# EAGLE library part EP4CE6E22C8N (library ICs)
6K LE, 144pin EQFP, Cyclone IV FPGA
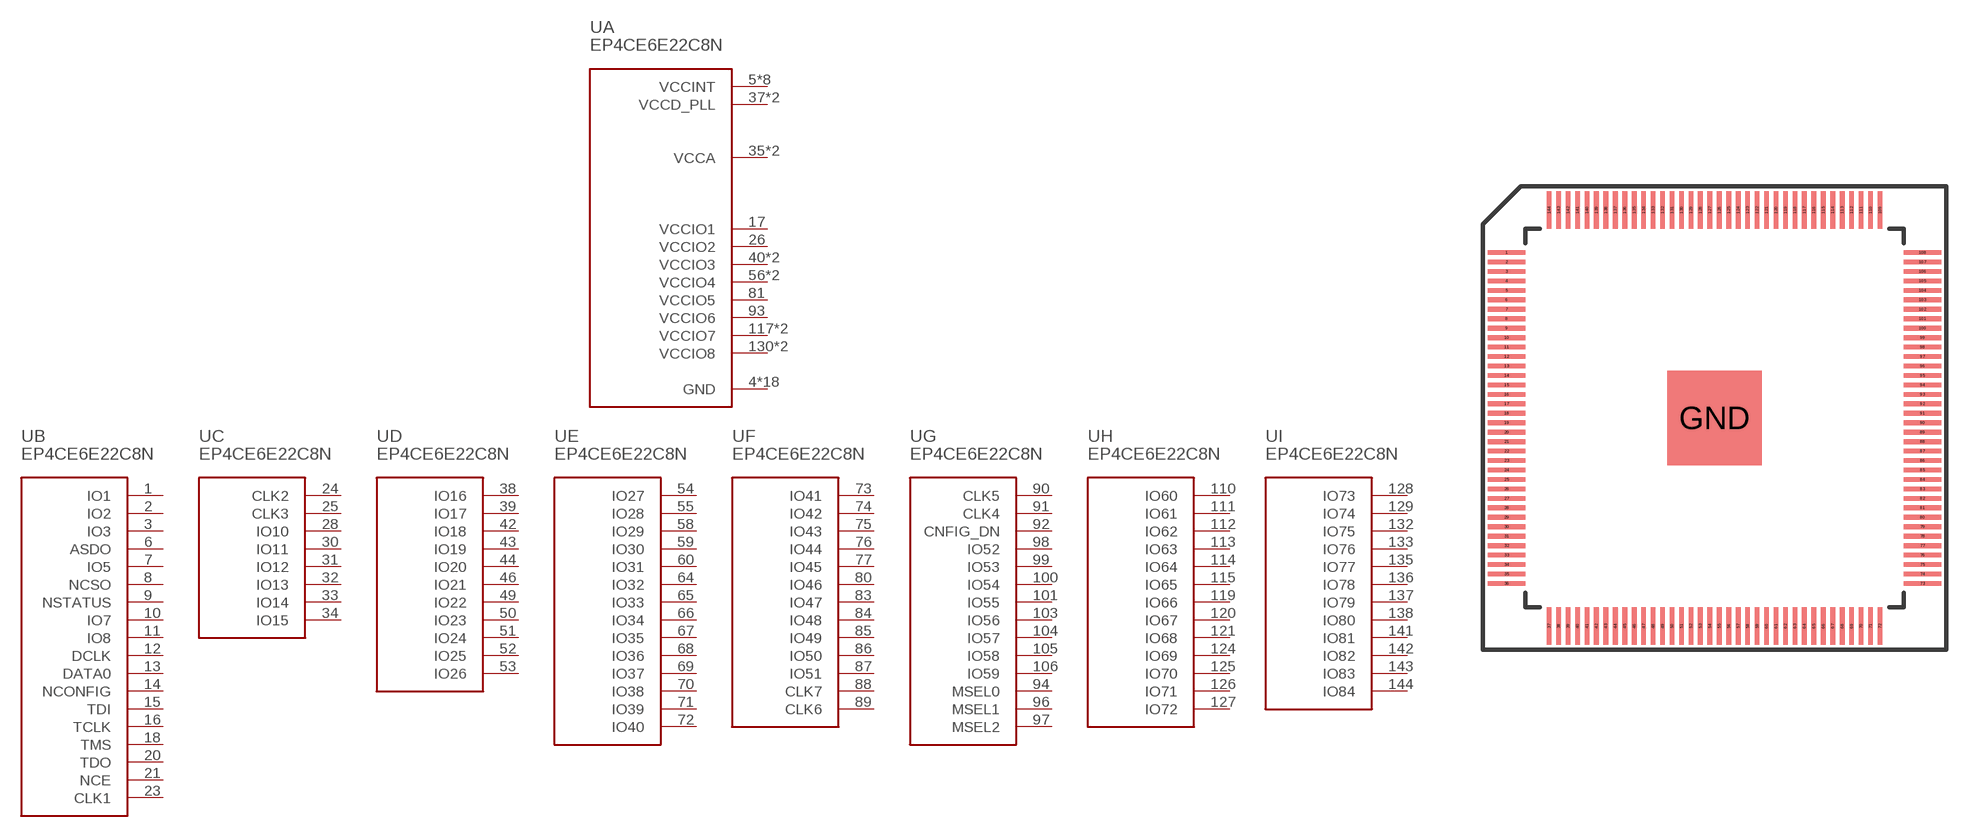
[diagram p35: symbol with the pads of QFP144_PP; footprint QFP144_PP]

Designator prefix U; gates A=EP4CE6_POWER B=EP4CE6_BANK1 C=EP4CE6_BANK2 D=EP4CE6_BANK3 E=EP4CE6_BANK4 F=EP4CE6_BANK5 G=EP4CE6_BANK6 H=EP4CE6_BANK7 I=EP4CE6_BANK8

## EP4CE6E22C8N (FARNELL: 2100851)  [QFP144_PP]
1  B:IO1
2  B:IO2
3  B:IO3
4  A:GND
5  A:VCCINT
6  B:ASDO
7  B:IO5
8  B:NCSO
9  B:NSTATUS
10  B:IO7
11  B:IO8
12  B:DCLK
13  B:DATA0
14  B:NCONFIG
15  B:TDI
16  B:TCLK
17  A:VCCIO1
18  B:TMS
19  A:GND
20  B:TDO
21  B:NCE
22  A:GND
23  B:CLK1
24  C:CLK2
25  C:CLK3
26  A:VCCIO2
27  A:GND
28  C:IO10
29  A:VCCINT
30  C:IO11
31  C:IO12
32  C:IO13
33  C:IO14
34  C:IO15
35  A:VCCA
36  A:GND
37  A:VCCD_PLL
38  D:IO16
39  D:IO17
40  A:VCCIO3
41  A:GND
42  D:IO18
43  D:IO19
44  D:IO20
45  A:VCCINT
46  D:IO21
47  A:VCCIO3
48  A:GND
49  D:IO22
50  D:IO23
51  D:IO24
52  D:IO25
53  D:IO26
54  E:IO27
55  E:IO28
56  A:VCCIO4
57  A:GND
58  E:IO29
59  E:IO30
60  E:IO31
61  A:VCCINT
62  A:VCCIO4
63  A:GND
64  E:IO32
65  E:IO33
66  E:IO34
67  E:IO35
68  E:IO36
69  E:IO37
70  E:IO38
71  E:IO39
72  E:IO40
73  F:IO41
74  F:IO42
75  F:IO43
76  F:IO44
77  F:IO45
78  A:VCCINT
79  A:GND
80  F:IO46
81  A:VCCIO5
82  A:GND
83  F:IO47
84  F:IO48
85  F:IO49
86  F:IO50
87  F:IO51
88  F:CLK7
89  F:CLK6
90  G:CLK5
91  G:CLK4
92  G:CNFIG_DN
93  A:VCCIO6
94  G:MSEL0
95  A:GND
96  G:MSEL1
97  G:MSEL2
98  G:IO52
99  G:IO53
100  G:IO54
101  G:IO55
102  A:VCCINT
103  G:IO56
104  G:IO57
105  G:IO58
106  G:IO59
107  A:VCCA
108  A:GND
109  A:VCCD_PLL
110  H:IO60
111  H:IO61
112  H:IO62
113  H:IO63
114  H:IO64
115  H:IO65
116  A:VCCINT
117  A:VCCIO7
118  A:GND
119  H:IO66
120  H:IO67
121  H:IO68
122  A:VCCIO7
123  A:GND
124  H:IO69
125  H:IO70
126  H:IO71
127  H:IO72
128  I:IO73
129  I:IO74
130  A:VCCIO8
131  A:GND
132  I:IO75
133  I:IO76
134  A:VCCINT
135  I:IO77
136  I:IO78
137  I:IO79
138  I:IO80
139  A:VCCIO8
140  A:GND
141  I:IO81
142  I:IO82
143  I:IO83
144  I:IO84
GND  A:GND

## Footprint QFP144_PP (pad centres in mm)
smd 2 x 0.25: 1 -11,8.75; 2 -11,8.25; 3 -11,7.75; 4 -11,7.25; 5 -11,6.75; 6 -11,6.25; 7 -11,5.75; 8 -11,5.25; 9 -11,4.75; 10 -11,4.25; 11 -11,3.75; 12 -11,3.25; 13 -11,2.75; 14 -11,2.25; 15 -11,1.75; 16 -11,1.25; 17 -11,0.75; 18 -11,0.25; 19 -11,-0.25; 20 -11,-0.75; 21 -11,-1.25; 22 -11,-1.75; 23 -11,-2.25; 24 -11,-2.75; 25 -11,-3.25; 26 -11,-3.75; 27 -11,-4.25; 28 -11,-4.75; 29 -11,-5.25; 30 -11,-5.75; 31 -11,-6.25; 32 -11,-6.75; 33 -11,-7.25; 34 -11,-7.75; 35 -11,-8.25; 36 -11,-8.75; 73 11,-8.75; 74 11,-8.25; 75 11,-7.75; 76 11,-7.25; 77 11,-6.75; 78 11,-6.25; 79 11,-5.75; 80 11,-5.25; 81 11,-4.75; 82 11,-4.25; 83 11,-3.75; 84 11,-3.25; 85 11,-2.75; 86 11,-2.25; 87 11,-1.75; 88 11,-1.25; 89 11,-0.75; 90 11,-0.25; 91 11,0.25; 92 11,0.75; 93 11,1.25; 94 11,1.75; 95 11,2.25; 96 11,2.75; 97 11,3.25; 98 11,3.75; 99 11,4.25; 100 11,4.75; 101 11,5.25; 102 11,5.75; 103 11,6.25; 104 11,6.75; 105 11,7.25; 106 11,7.75; 107 11,8.25; 108 11,8.75
smd 0.25 x 2: 37 -8.75,-11; 38 -8.25,-11; 39 -7.75,-11; 40 -7.25,-11; 41 -6.75,-11; 42 -6.25,-11; 43 -5.75,-11; 44 -5.25,-11; 45 -4.75,-11; 46 -4.25,-11; 47 -3.75,-11; 48 -3.25,-11; 49 -2.75,-11; 50 -2.25,-11; 51 -1.75,-11; 52 -1.25,-11; 53 -0.75,-11; 54 -0.25,-11; 55 0.25,-11; 56 0.75,-11; 57 1.25,-11; 58 1.75,-11; 59 2.25,-11; 60 2.75,-11; 61 3.25,-11; 62 3.75,-11; 63 4.25,-11; 64 4.75,-11; 65 5.25,-11; 66 5.75,-11; 67 6.25,-11; 68 6.75,-11; 69 7.25,-11; 70 7.75,-11; 71 8.25,-11; 72 8.75,-11; 109 8.75,11; 110 8.25,11; 111 7.75,11; 112 7.25,11; 113 6.75,11; 114 6.25,11; 115 5.75,11; 116 5.25,11; 117 4.75,11; 118 4.25,11; 119 3.75,11; 120 3.25,11; 121 2.75,11; 122 2.25,11; 123 1.75,11; 124 1.25,11; 125 0.75,11; 126 0.25,11; 127 -0.25,11; 128 -0.75,11; 129 -1.25,11; 130 -1.75,11; 131 -2.25,11; 132 -2.75,11; 133 -3.25,11; 134 -3.75,11; 135 -4.25,11; 136 -4.75,11; 137 -5.25,11; 138 -5.75,11; 139 -6.25,11; 140 -6.75,11; 141 -7.25,11; 142 -7.75,11; 143 -8.25,11; 144 -8.75,11
smd 5 x 5: GND 0,0